# Altium schematic symbol library Super_IO.SchLib: 6 symbols
Pins are listed as number, name and electrical type; pins without a type are passive.

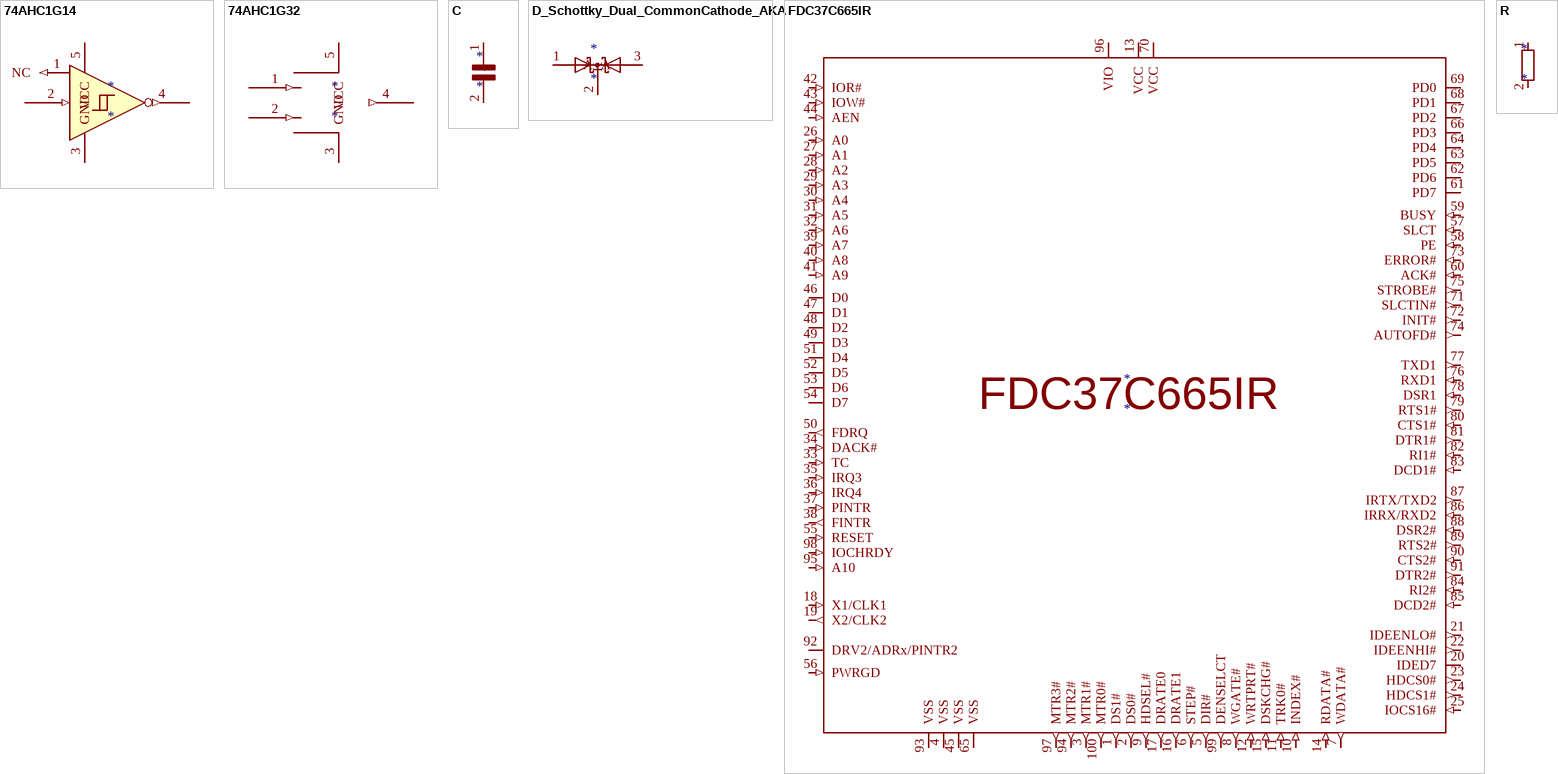
[diagram p0: symbols 74AHC1G14 to R]

## 74AHC1G14
designator *
pins: 1 NC (in), 2 (in), 3 GND (power), 4 (out), 5 VCC (power)

## 74AHC1G32
designator *
pins: 1 (in), 2 (in), 3 GND (power), 4 (out), 5 VCC (power)

## C
designator *
pins: 1 +, 2 -
1 alternate drawing of the same symbol

## D_Schottky_Dual_CommonCathode_AKA
designator *
pins: 1 A, 2 K, 3 A

## FDC37C665IR
designator *
pins: 1 DS1# (out), 2 DS0# (out), 3 MTR1# (out), 4 VSS (power), 5 DIR# (out), 6 STEP# (out), 7 WDATA# (out), 8 WGATE# (out), 9 HDSEL# (out), 10 INDEX# (in), 11 TRK0# (in), 12 WRTPRT# (in), 13 VCC (power), 14 RDATA# (in), 15 DSKCHG# (in), 16 DRATE1 (out), 17 DRATE0 (out), 18 X1/CLK1 (in), 19 X2/CLK2 (out), 20 IDED7 (io), 21 IDEENLO# (out), 22 IDEENHI# (out), 23 HDCS0# (out), 24 HDCS1# (out), 25 IOCS16# (in), 26 A0 (in), 27 A1 (in), 28 A2 (in), 29 A3 (in), 30 A4 (in), 31 A5 (in), 32 A6 (in), 33 TC (in), 34 DACK# (in), 35 IRQ3 (in), 36 IRQ4 (in), 37 PINTR (in), 38 FINTR (out), 39 A7 (in), 40 A8 (in), 41 A9 (in), 42 IOR# (in), 43 IOW# (in), 44 AEN (in), 45 VSS (power), 46 D0 (io), 47 D1 (io), 48 D2 (io), 49 D3 (io), 50 FDRQ (out), 51 D4 (io), 52 D5 (io), 53 D6 (io), 54 D7 (io), 55 RESET (in), 56 PWRGD (in), 57 SLCT (in), 58 PE (in), 59 BUSY (in), 60 ACK# (in), 61 PD7 (io), 62 PD6 (io), 63 PD5 (io), 64 PD4 (io), 65 VSS (power), 66 PD3 (io), 67 PD2 (io), 68 PD1 (io), 69 PD0 (io), 70 VCC (power), 71 SLCTIN# (out), 72 INIT# (out), 73 ERROR# (in), 74 AUTOFD# (out), 75 STROBE# (out), 76 RXD1 (in), 77 TXD1 (out), 78 DSR1 (in), 79 RTS1# (out), 80 CTS1# (in), 81 DTR1# (out), 82 RI1# (in), 83 DCD1# (in), 84 RI2# (in), 85 DCD2# (in), 86 IRRX/RXD2 (in), 87 IRTX/TXD2 (out), 88 DSR2# (in), 89 RTS2# (out), 90 CTS2# (in), 91 DTR2# (out), 92 DRV2/ADRx/PINTR2 (io), 93 VSS (power), 94 MTR2# (out), 95 A10 (in), 96 VIO (power), 97 MTR3# (out), 98 IOCHRDY (in), 99 DENSELCT (out), 100 MTR0# (out)

## R
designator *
pins: 1, 2